# Altium schematic symbol library ST1S14.Schlib: 1 symbol
Pins are listed as number, name and electrical type; pins without a type are passive.

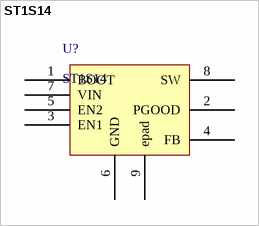
[diagram p0: symbol ST1S14]

## ST1S14
designator U?
IC BUCK ADJ 3A 8HSOP
pins: 1 BOOT, 2 PGOOD, 3 EN1, 4 FB, 5 EN2, 6 GND, 7 VIN, 8 SW, 9 epad